# Altium footprint library Cap8x14.PcbLib: 1 footprints
Each footprint in its own frame and in the unit in brackets; x right, y up, seen from the top. Pads: shape width x height; smd on the part's side, far side on the other; paste and mask are expansions set on the pad; w line width, h text height; cw(c..) or ccw(c..) is an arc to the next point about the centre after c.
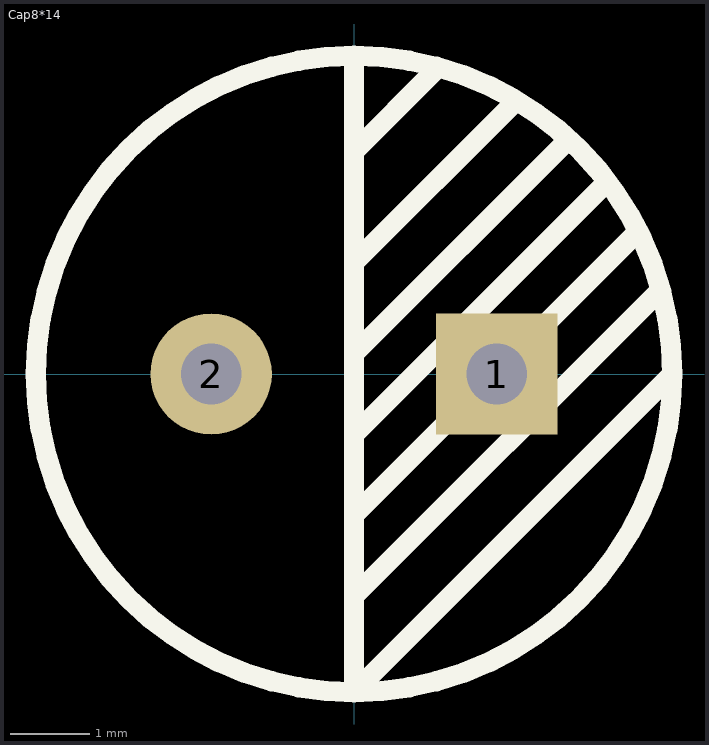
[diagram p0: the footprint, top view; thin cyan lines are the x and y axes]

## Cap8*14 [mil]
pads (2):
  rect 60x60 hole 30: 1(70.7,0)
  round 60 hole 30: 2(-70.7,0)
Top Overlay:
  circle w10: c0,0 r157.48
  lines w10: 0,-115 0,-110 150,40 ; 0,-80 0,-70 140,70 ; 0,-40 0,-30 ; 0,-25 0,-30 ; 0,0 0,10 105,115 ; 0,50 0,55 80,135 ; 0,80 0,85 ; 0,105 0,110 40,150 ; 0,155 0,-155 2.48,-155 157.48,0 ; 125,95 0,-30